# Altium footprint library WLCSP 2.6x2.6x0.5.PcbLib: 1 footprints
Each footprint in its own frame and in the unit in brackets; x right, y up, seen from the top. Pads: shape width x height; smd on the part's side, far side on the other; paste and mask are expansions set on the pad; w line width, h text height; cw(c..) or ccw(c..) is an arc to the next point about the centre after c.
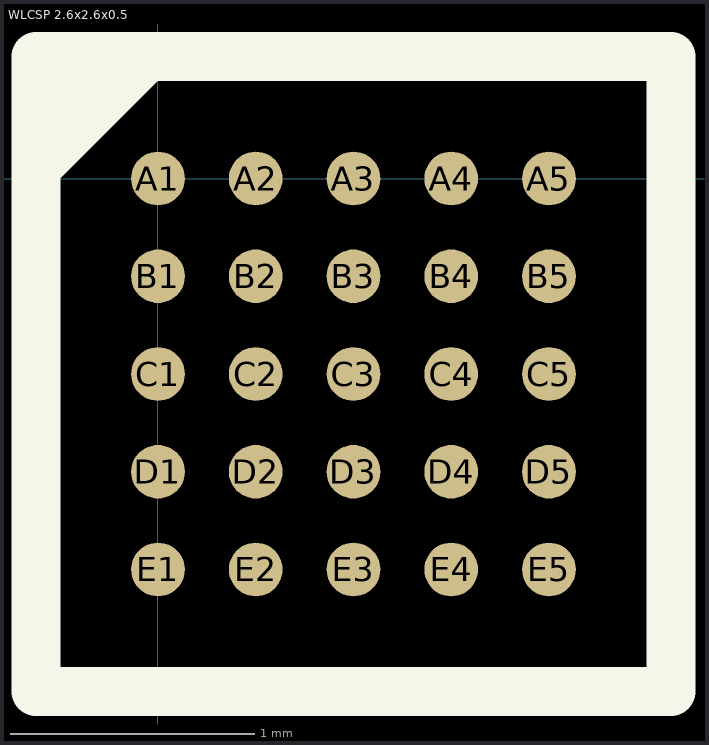
[diagram p0: the footprint, top view; thin cyan lines are the x and y axes]

## WLCSP 2.6x2.6x0.5 [mm] "WLCSP (2.6x2.6x0.5) 25 bumps"
height 0.5
pads (25):
  round 0.22 smd: A1(0,0) A2(0.4,0) A3(0.8,0) A4(1.2,0) A5(1.6,0) B1(0,-0.4) B2(0.4,-0.4) B3(0.8,-0.4) B4(1.2,-0.4) B5(1.6,-0.4) C1(0,-0.8) C2(0.4,-0.8) C3(0.8,-0.8) C4(1.2,-0.8) C5(1.6,-0.8) D1(0,-1.2) D2(0.4,-1.2) D3(0.8,-1.2) D4(1.2,-1.2) D5(1.6,-1.2) E1(0,-1.6) E2(0.4,-1.6) E3(0.8,-1.6) E4(1.2,-1.6) E5(1.6,-1.6)
Top Overlay:
  region: -0.493,-0.093 0.093,0.493 -0.5,0.5
  lines w0.2: -0.5,-2.1 2.1,-2.1 2.1,0.5 -0.5,0.5 -0.5,-2.1
Mechanical 1:
  lines w0.01: -0.496,-2.1 -0.496,0.5 2.104,0.5 2.104,-2.1 -0.496,-2.1
3D body: height 0.51, standoff 0.5, extent -0.3,0.145 -0.138,0.3
3D body: height 0.3, standoff -0.3, extent 2.6,-0.1 2.6,-0.1
3D body: height 0.5, standoff 0.2, extent -0.496,-2.1 2.104,0.5
3D body: height 0.28, standoff -0.01, extent -0.139,-1.745 0.148,-1.455
3D body: height 0.28, standoff -0.01, extent 0.261,-1.745 0.548,-1.455
3D body: height 0.28, standoff -0.01, extent 0.661,-1.745 0.948,-1.455
3D body: height 0.28, standoff -0.01, extent 1.061,-1.745 1.348,-1.455
3D body: height 0.28, standoff -0.01, extent 1.461,-1.745 1.748,-1.455
3D body: height 0.28, standoff -0.01, extent -0.139,-1.345 0.147,-1.055
3D body: height 0.28, standoff -0.01, extent 0.261,-1.345 0.547,-1.055
3D body: height 0.28, standoff -0.01, extent 0.661,-1.345 0.947,-1.055
3D body: height 0.28, standoff -0.01, extent 1.061,-1.345 1.347,-1.055
3D body: height 0.28, standoff -0.01, extent 1.461,-1.345 1.747,-1.055
3D body: height 0.28, standoff -0.01, extent -0.139,-0.945 0.148,-0.655
3D body: height 0.28, standoff -0.01, extent 0.261,-0.945 0.548,-0.655
3D body: height 0.28, standoff -0.01, extent 0.661,-0.945 0.948,-0.655
3D body: height 0.28, standoff -0.01, extent 1.061,-0.945 1.348,-0.655
3D body: height 0.28, standoff -0.01, extent 1.461,-0.945 1.748,-0.655
3D body: height 0.28, standoff -0.01, extent -0.139,-0.545 0.148,-0.255
3D body: height 0.28, standoff -0.01, extent 0.261,-0.545 0.548,-0.255
3D body: height 0.28, standoff -0.01, extent 0.661,-0.545 0.948,-0.255
3D body: height 0.28, standoff -0.01, extent 1.061,-0.545 1.348,-0.255
3D body: height 0.28, standoff -0.01, extent 1.461,-0.545 1.748,-0.255
3D body: height 0.28, standoff -0.01, extent 1.461,-0.145 1.748,0.145
3D body: height 0.28, standoff -0.01, extent 1.061,-0.145 1.348,0.145
3D body: height 0.28, standoff -0.01, extent 0.661,-0.145 0.948,0.145
3D body: height 0.28, standoff -0.01, extent 0.261,-0.145 0.548,0.145
3D body: height 0.28, standoff -0.01, extent -0.139,-0.145 0.148,0.145